# EAGLE library part RJ452XI2C (library EASEagle)
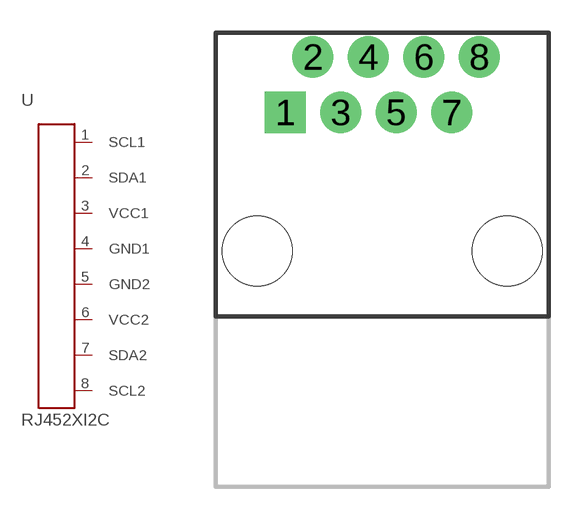
[diagram p1: symbol with the pads of RJ45-8; footprint RJ45-8]

Designator prefix -

## RJ452XI2C  [RJ45-8]
1  SCL1
2  SDA1
3  VCC1
4  GND1
5  GND2
6  VCC2
7  SDA2
8  SCL2

## Footprint RJ45-8 (pad centres in mm)
RJ45 Socket with PCB Mounting Posts Specifications: Pin count:8 Datasheet referenced for footprint <https://cdn.sparkfun.com/datasheets/Prototyping/04908.pdf> Example device(s): RJ45-8
drill 1 pad 1.88 square: 1 -4.445,6.35
drill 1 pad 1.88: 2 -3.175,8.89; 3 -1.905,6.35; 4 -0.635,8.89; 5 0.635,6.35; 6 1.905,8.89; 7 3.175,6.35; 8 4.445,8.89
hole 3.2 at -5.715,0
hole 3.2 at 5.715,0